# EAGLE library part NTB0104 (library firefly)
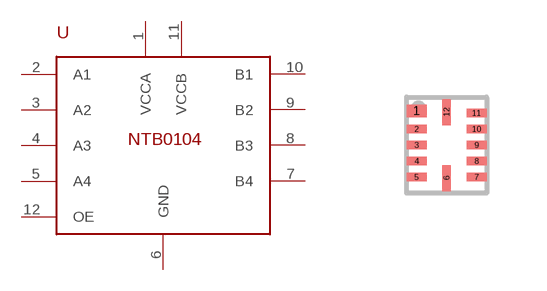
[diagram p14: symbol with the pads of XQFN12; footprint XQFN12]

Designator prefix -

## NTB0104  [XQFN12]
1  VCCA
2  A1
3  A2
4  A3
5  A4
6  GND
7  B4
8  B3
9  B2
10  B1
11  VCCB
12  OE

## Footprint XQFN12 (pad centres in mm)
smd 0.5 x 0.32: 1 -0.75,0.85
smd 0.5 x 0.22: 2 -0.75,0.4; 3 -0.75,0; 4 -0.75,-0.4; 5 -0.75,-0.8; 7 0.75,-0.8; 8 0.75,-0.4; 9 0.75,0; 10 0.75,0.4; 11 0.75,0.8
smd 0.22 x 0.65: 6 0,-0.825; 12 0,0.825